# EAGLE library part AD7992 (library mcp4728)
2-Channel, 12-Bit ADC with I2C-Compatible Interface 10-Lead MSOP Source: http://www.analog.com/UploadedFiles/Data_Sheets/224965274AD7992_0.pdf
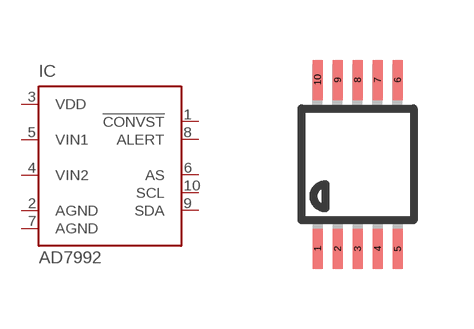
[diagram p1: symbol with the pads of MSOP10; footprint MSOP10]

Designator prefix IC

## AD7992 (MPN: AD7992BRMZ-0; OC_FARNELL: 1078311; OC_NEWARK: 31M4422)  [MSOP10]
1  !CONVST  in
2  AGND  pwr
3  VDD  pwr
4  VIN2  in
5  VIN1  in
6  AS  in
7  AGND  pwr
8  ALERT  out
9  SDA
10  SCL  in

## Footprint MSOP10 (pad centres in mm)
10-Lead Mini Small Outline Package [MSOP] (RM-10) Source: http://www.analog.com/UploadedFiles/Data_Sheets/35641221898805SSM2167_b.pdf COMPLIANT TO JEDEC STANDARDS MO-187BA
smd 0.25 x 1: 1 -1,-2.113; 2 -0.5,-2.113; 3 0,-2.113; 4 0.5,-2.113; 5 1,-2.113; 6 1,2.113; 7 0.5,2.113; 8 0,2.113; 9 -0.5,2.113; 10 -1,2.113